# Altium footprint library LINUX.PcbLib: 113 footprints (part 7 of 8)
Each footprint in its own frame and in the unit in brackets; x right, y up, seen from the top. Pads: shape width x height; smd on the part's side, far side on the other; paste and mask are expansions set on the pad; w line width, h text height; cw(c..) or ccw(c..) is an arc to the next point about the centre after c.
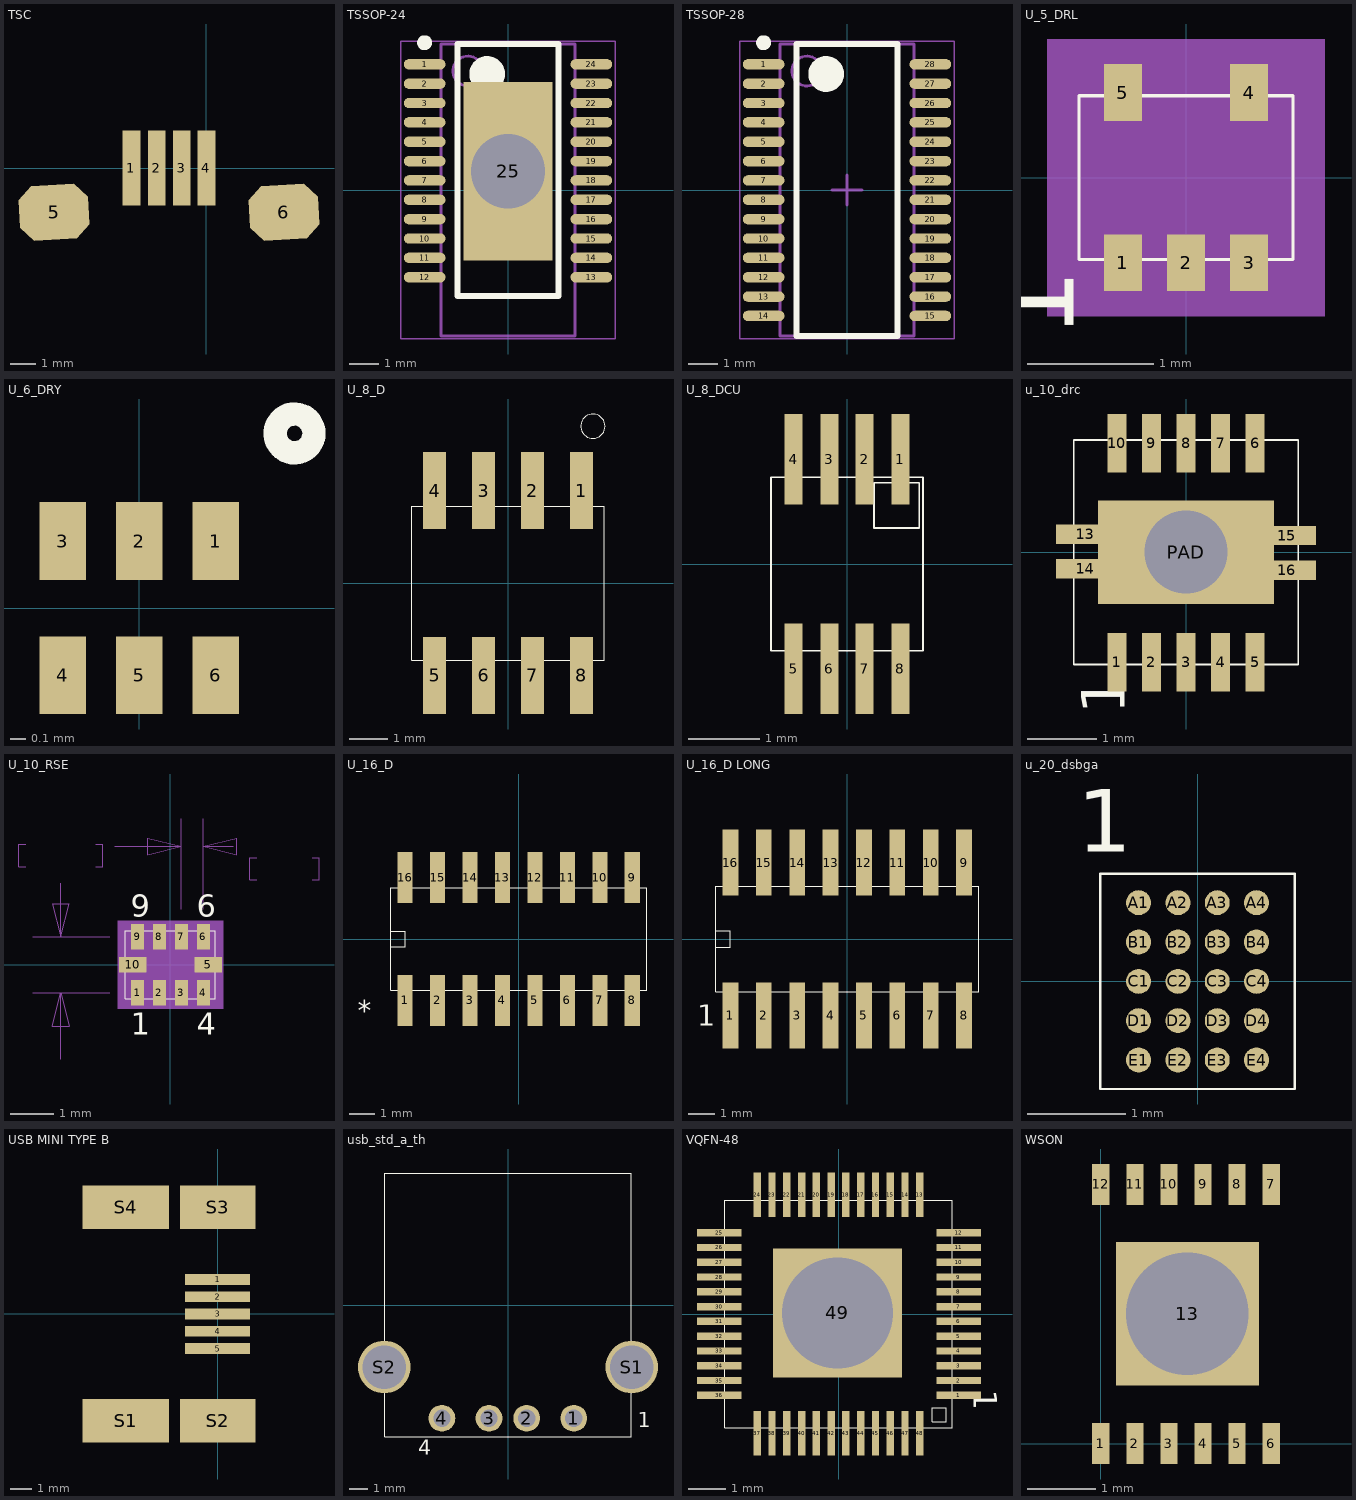
[diagram p6: the footprints below, top view; thin cyan lines are the x and y axes]

## TSC [mm] "CNFPC1X40-0P5MM"
pads (6):
  rect 0.7x3 smd mask+0.06: 1(-3,0) 2(-2,0) 3(-1,0) 4(0,0)
  oct 2.8x2.2 smd rot 3 mask+0.06: 5(-6.1,-1.762) 6(3.1,-1.762)

## TSSOP-24 [mm] "TSOP, 28-Leads, Body 9.7x4.4mm, Pitch 0.65mm, IPC High Density"
height 1.2
pads (25):
  oval 1.4x0.35 smd: 1(-2.8,4.225) 2(-2.8,3.575) 3(-2.8,2.925) 4(-2.8,2.275) 5(-2.8,1.625) 6(-2.8,0.975) 7(-2.8,0.325) 8(-2.8,-0.325) 9(-2.8,-0.975) 10(-2.8,-1.625) 11(-2.8,-2.275) 12(-2.8,-2.925) 13(2.8,-2.925) 14(2.8,-2.275) 15(2.8,-1.625) 16(2.8,-0.975) 17(2.8,-0.325) 18(2.8,0.325) 19(2.8,0.975) 20(2.8,1.625) 21(2.8,2.275) 22(2.8,2.925) 23(2.8,3.575) 24(2.8,4.225)
  rect 3x6 hole 2.5 square: 25(0,0.635)
Top Overlay:
  circle w0.6: c-0.7,3.9 r0.3
  circle w0.25: c-2.8,4.95 r0.125
  lines w0.2: -1.7,-3.556 1.7,-3.556 1.7,4.9 -1.7,4.9 -1.7,-3.556
Mechanical 13:
  circle w0.1: c-1.35,4 r0.5
  lines w0.1: -2.25,-4.9 2.25,-4.9 2.25,4.9 -2.25,4.9 -2.25,-4.9
Mechanical 15:
  lines w0.05: -3.6,-5 3.6,-5 3.6,5 -3.6,5 -3.6,-5
  lines w0.1: -0.5,0 0.5,0 ; 0,-0.5 0,0.5
3D body: height 1.2, standoff 0.05, extent -2.25,-4.9 2.25,4.9

## TSSOP-28 [mm] "TSOP, 28-Leads, Body 9.7x4.4mm, Pitch 0.65mm, IPC High Density"
height 1.2
pads (28):
  oval 1.4x0.35 smd: 1(-2.8,4.225) 2(-2.8,3.575) 3(-2.8,2.925) 4(-2.8,2.275) 5(-2.8,1.625) 6(-2.8,0.975) 7(-2.8,0.325) 8(-2.8,-0.325) 9(-2.8,-0.975) 10(-2.8,-1.625) 11(-2.8,-2.275) 12(-2.8,-2.925) 13(-2.8,-3.575) 14(-2.8,-4.225) 15(2.8,-4.225) 16(2.8,-3.575) 17(2.8,-2.925) 18(2.8,-2.275) 19(2.8,-1.625) 20(2.8,-0.975) 21(2.8,-0.325) 22(2.8,0.325) 23(2.8,0.975) 24(2.8,1.625) 25(2.8,2.275) 26(2.8,2.925) 27(2.8,3.575) 28(2.8,4.225)
Top Overlay:
  circle w0.25: c-2.8,4.95 r0.125
  circle w0.6: c-0.7,3.9 r0.3
  lines w0.2: -1.7,-4.9 -1.7,4.9 1.7,4.9 1.7,-4.9 -1.7,-4.9
Mechanical 13:
  circle w0.1: c-1.35,4 r0.5
  lines w0.1: -2.25,-4.9 -2.25,4.9 2.25,4.9 2.25,-4.9 -2.25,-4.9
Mechanical 15:
  lines w0.05: -3.6,-5 -3.6,5 3.6,5 3.6,-5 -3.6,-5
  lines w0.1: -0.5,0 0.5,0 ; 0,-0.5 0,0.5
3D body: height 1.2, standoff 0.05, extent -2.25,-4.9 2.25,4.9

## U_5_DRL [mm] "U_5_DRL"
pads (5):
  rect 0.3x0.45 smd mask+0.06: 1(-0.5,-0.675) 2(0,-0.675) 3(0.5,-0.675) 4(0.5,0.675) 5(-0.5,0.675)
Top Overlay:
  lines w0.025: -0.85,-0.65 -0.85,0.65 0.85,0.65 0.85,-0.65 -0.85,-0.65
  text "1" at -0.89,-1.28 h0.64
Mechanical 16:
  region: 1.1,1.1 1.1,-1.1 -1.1,-1.1 -1.1,1.1
  lines w0.025: -0.85,-0.65 -0.85,0.65 0.85,0.65 0.85,-0.65 -0.85,-0.65
Mechanical 20:
  text "MFG:" at 0,-19.177 h0.79
  text "SYM:" at 0,-20.447 h0.79
  text "PAD:" at 0,-21.844 h0.79
  text "BUILT BY:" at 0,-23.368 h0.79
  text "CHECKED BY:" at 0,-24.892 h0.79
Mechanical 32:
  text "1" at -0.885,-1.282 h0.64
  text "4" at 0.5,0.421 h0.64
  text "2" at 0,-0.929 h0.64
  text "3" at 0.5,-0.929 h0.64
  text "1" at -0.5,-0.929 h0.64
  text "5" at -0.5,0.421 h0.64

## U_6_DRY [mil] "U_6_DRY"
pads (6):
  rect 12x20 smd mask+3.94: 1(19.68,17.28) 2(0,17.28) 3(-19.68,17.28) 4(-19.68,-17.28) 5(0,-17.28) 6(19.68,-17.28)
Top Overlay:
  circle w6: c40,45 r5

## U_8_D [mm] "U_8_D"
pads (8):
  rect 0.6x2 smd: 1(1.905,2.4) 2(0.635,2.4) 3(-0.635,2.4) 4(-1.905,2.4) 5(-1.905,-2.4) 6(-0.635,-2.4) 7(0.635,-2.4) 8(1.905,-2.4)
Top Overlay:
  circle w0.025: c2.205,4.075 r0.316
  lines w0.025: -2.5,-2 -2.5,2 2.5,2 2.5,-2 -2.5,-2

## U_8_DCU [mil] "U_8_DCU"
pads (8):
  rect 10x50 smd mask+5.12: 1(29.5,58) 2(9.8,58) 3(-9.8,58) 4(-29.5,58) 5(-29.5,-58) 6(-9.8,-58) 7(9.8,-58) 8(29.5,-58)
Top Overlay:
  lines w1: -42,-48 -42,48 42,48 42,-48 -42,-48 ; 15,20 15,45 40,45 40,20 15,20

## u_10_drc [mm] "U_10_DRC"
pads (15):
  rect 0.28x0.85 smd mask+0.12: 1(-1,-1.595) 2(-0.5,-1.595) 3(0,-1.595) 4(0.5,-1.595) 5(1,-1.595) 6(1,1.575) 7(0.5,1.575) 8(0,1.575) 9(-0.5,1.575) 10(-1,1.575)
  rect 0.85x0.28 smd mask+0.12: 13(-1.46,0.26) 14(-1.46,-0.24) 15(1.46,0.24) 16(1.46,-0.26)
  rect 2.55x1.5 hole 1.2 square: PAD(0,0)
Top Overlay:
  lines w0.025: -1.625,0 -1.625,-1.625 ; 0,-1.625 -1.625,-1.625 ; -1.625,-1.625 -1.625,1.625 1.625,1.625 1.625,-1.625 -1.625,-1.625
  text "1" at -0.889,-2.343 h0.64
Top Paste:
  pour cut-out: -0.11,0.79 -1.16,0.79 -1.16,0.11 -0.11,0.11
  pour cut-out: 1.16,0.79 0.11,0.79 0.11,0.11 1.16,0.11
  pour cut-out: 1.16,-0.11 0.11,-0.11 0.11,-0.79 1.16,-0.79
  pour cut-out: -0.11,-0.11 -1.16,-0.11 -1.16,-0.79 -0.11,-0.79
  pour cut-out: -1.38,0.38 -1.88,0.38 -1.88,0.12 -1.38,0.12
  pour cut-out: -1.38,-0.12 -1.88,-0.12 -1.88,-0.38 -1.38,-0.38
  pour cut-out: 1.88,0.38 1.38,0.38 1.38,0.12 1.88,0.12
  pour cut-out: 1.88,-0.12 1.38,-0.12 1.38,-0.38 1.88,-0.38

## U_10_RSE [mm] "U_10_RSE"
pads (10):
  rect 0.3x0.58 smd mask+0.051: 1(-0.75,-0.635) 2(-0.25,-0.635) 3(0.25,-0.635) 4(0.75,-0.635) 6(0.75,0.635) 7(0.25,0.635) 8(-0.25,0.635) 9(-0.75,0.635)
  rect 0.63x0.35 smd mask+0.051: 5(0.86,0) 10(-0.86,0)
Top Overlay:
  lines w0.025: -1.025,-0.775 1.025,-0.775 1.025,0.775 -1.025,0.775 -1.025,-0.775
  text "1" at -0.9,-1.6 h0.51
  text "4" at 0.6,-1.6 h0.51
  text "6" at 0.6,1.1 h0.51
  text "9" at -0.9,1.1 h0.51
Mechanical 16:
  region: -1.2,-1 1.2,-1 1.2,1 -1.2,1
  lines w0.025: -3.301,2.238 -3.453,2.238 -3.453,2.746 -3.301,2.746 ; -3.135,-0.635 -1.385,-0.635 ; -3.135,0.635 -1.385,0.635 ; -2.5,-2.159 -2.5,-0.635 ; -2.5,1.857 -2.5,0.635 ; -1.7,2.238 -1.548,2.238 -1.548,2.746 -1.7,2.746 ; -1.274,2.7 0.25,2.7 ; 0.25,1.27 0.25,3.335 ; 0.75,1.27 0.75,3.335 ; 1.432,2.7 0.75,2.7 ; 1.964,1.938 1.812,1.938 1.812,2.446 1.964,2.446 ; 3.235,1.938 3.387,1.938 3.387,2.446 3.235,2.446 ; -2.5,-0.635 -2.31,-1.397 -2.69,-1.397 -2.5,-0.635 ; -2.5,0.635 -2.69,1.397 -2.31,1.397 -2.5,0.635 ; 0.25,2.7 -0.512,2.51 -0.512,2.89 0.25,2.7 ; 0.75,2.7 1.512,2.89 1.512,2.51 0.75,2.7
  lines w0.127: -1.025,-0.775 1.025,-0.775 1.025,0.775 -1.025,0.775 -1.025,-0.775
Mechanical 20:
  text ".020" at 1.952,2.954 h0.51
  text "0.5" at 2.117,1.938 h0.51
  text ".050" at -3.148,3.254 h0.51
  text "1.27" at -3.148,2.238 h0.51
Mechanical 32:
  text "6" at 0.546,0.635 h0.51
  text "7" at 0.046,0.635 h0.51
  text "8" at -0.454,0.635 h0.51
  text "1" at -0.954,-0.635 h0.51
  text "2" at -0.454,-0.635 h0.51
  text "3" at 0.046,-0.635 h0.51
  text "4" at 0.546,-0.635 h0.51
  text "9" at -0.954,0.635 h0.51
  text "5" at 0.656,0 h0.51
  text "10" at -1.268,0 h0.51
  text "1" at -0.952,-1.655 h0.64
  text "4" at 0.547,-1.681 h0.64
  text "6" at 0.572,1.062 h0.64
  text "9" at -0.952,1.037 h0.64

## U_16_D [mm] "U_16_D"
pads (16):
  rect 0.6x2 smd: 1(-4.445,-2.4) 2(-3.175,-2.4) 3(-1.905,-2.4) 4(-0.635,-2.4) 5(0.635,-2.4) 6(1.905,-2.4) 7(3.175,-2.4) 8(4.445,-2.4) 9(4.445,2.4) 10(3.175,2.4) 11(1.905,2.4) 12(0.635,2.4) 13(-0.635,2.4) 14(-1.905,2.4) 15(-3.175,2.4) 16(-4.445,2.4)
Top Overlay:
  lines w0.025: -5.004,-2.007 5.004,-2.007 5.004,2.007 -5.004,2.007 -5.004,-2.007 ; -5.004,-0.305 -4.445,-0.305 -4.445,0.305 -5.004,0.305 -5.004,-0.305
  text "*" at -6.284,-3.175 h0.79

## U_16_D LONG [mm] "U_16_D"
pads (16):
  rect 0.6x2.5 smd: 1(-4.445,-2.908) 2(-3.175,-2.908) 3(-1.905,-2.908) 4(-0.635,-2.908) 5(0.635,-2.908) 6(1.905,-2.908) 7(3.175,-2.908) 8(4.445,-2.908) 9(4.445,2.908) 10(3.175,2.908) 11(1.905,2.908) 12(0.635,2.908) 13(-0.635,2.908) 14(-1.905,2.908) 15(-3.175,2.908) 16(-4.445,2.908)
Top Overlay:
  lines w0.025: -5.004,-2.007 5.004,-2.007 5.004,2.007 -5.004,2.007 -5.004,-2.007 ; -5.004,-0.305 -4.445,-0.305 -4.445,0.305 -5.004,0.305 -5.004,-0.305
  text "1" at -5.715,-3.302 h0.79

## u_20_dsbga [mil] "U_20_DSBGA"
pads (20):
  round 10 smd mask+1.57: A1(-23.62,31.5) A2(-7.87,31.5) A3(7.87,31.5) A4(23.62,31.5) B1(-23.62,15.75) B2(-7.87,15.75) B3(7.87,15.75) B4(23.62,15.75) C1(-23.62,0) C2(-7.87,0) C3(7.87,0) C4(23.62,0) D1(-23.62,-15.75) D2(-7.87,-15.75) D3(7.87,-15.75) D4(23.62,-15.75) E1(-23.62,-31.5) E2(-7.87,-31.5) E3(7.87,-31.5) E4(23.62,-31.5)
Top Overlay:
  lines w1: -38.98,-43.11 -38.98,43.11 38.98,43.11 38.98,-43.11 -38.98,-43.11
  text "1" at -48.28,51.83 h25.2

## USB MINI TYPE B [mm] "USB MINI TYPE B"
pads (9):
  rect 3x0.5 smd mask+0.06: 1(0,1.6) 2(0,0.8) 3(0,0) 4(0,-0.8) 5(0,-1.6)
  rect 4x2 smd mask+0.06: S1(-4.25,-4.925) S4(-4.25,4.925)
  rect 3.5x2 smd mask+0.06: S2(0,-4.925) S3(0,4.925)

## usb_std_a_th [mil] "USB_STD_A_TH"
pads (6):
  round 56 hole 36: 1(137.5,-236.5) 2(39.08,-236.5) 3(-39.66,-236.5) 4(-138.09,-236.5)
  round 110 hole 91: S1(258.5,-129.5) S2(-258.5,-129.5)
Top Overlay:
  lines w1: -258,-275.5 258,-275.5 258,275.5 -258,275.5 -258,-275.5
  text "1" at 270.78,-255.34 h31.1
  text "4" at -187.64,-312.71 h31.1

## VQFN-48 [mm] "U_48_RSL"
pads (49):
  rect 1.2x0.2 smd mask+0.051: 1(3.255,-2.2) 2(3.255,-1.8) 3(3.255,-1.4) 4(3.255,-1) 5(3.255,-0.6) 6(3.255,-0.2) 7(3.255,0.2) 8(3.255,0.6) 9(3.255,1) 10(3.255,1.4) 11(3.255,1.8) 12(3.255,2.2) 25(-3.229,2.2) 26(-3.229,1.8) 27(-3.229,1.4) 28(-3.229,1) 29(-3.229,0.6) 30(-3.229,0.2) 31(-3.229,-0.2) 32(-3.229,-0.6) 33(-3.229,-1) 34(-3.229,-1.4) 35(-3.229,-1.8) 36(-3.229,-2.2)
  rect 0.2x1.2 smd mask+0.051: 13(2.2,3.229) 14(1.8,3.229) 15(1.4,3.229) 16(1,3.229) 17(0.6,3.229) 18(0.2,3.229) 19(-0.2,3.229) 20(-0.6,3.229) 21(-1,3.229) 22(-1.4,3.229) 23(-1.8,3.229) 24(-2.2,3.229) 37(-2.2,-3.229) 38(-1.8,-3.229) 39(-1.4,-3.229) 40(-1,-3.229) 41(-0.6,-3.229) 42(-0.2,-3.229) 43(0.2,-3.229) 44(0.6,-3.229) 45(1,-3.229) 46(1.4,-3.229) 47(1.8,-3.229) 48(2.2,-3.229)
  rect 3.5x3.5 hole 3 square: 49(-0.029,0.029)
Top Overlay:
  lines w0.025: -3.075,-3.075 3.075,-3.075 3.075,3.075 -3.075,3.075 -3.075,-3.075 ; 2.54,-2.921 2.921,-2.921 2.921,-2.54 2.54,-2.54 2.54,-2.921
  text "1" at 3.653,-2.044 h0.64
Top Paste:
  lines w0.025: -1.8,-2.25 -0.65,-2.25 -0.65,-1.1 -1.8,-1.1 -1.8,-2.25 ; -1.8,-0.8 -0.65,-0.8 -0.65,0.35 -1.8,0.35 -1.8,-0.8 ; -1.8,0.65 -0.65,0.65 -0.65,1.8 -1.8,1.8 -1.8,0.65 ; -0.35,-2.25 0.8,-2.25 0.8,-1.1 -0.35,-1.1 -0.35,-2.25 ; -0.35,-0.8 0.8,-0.8 0.8,0.35 -0.35,0.35 -0.35,-0.8 ; -0.35,0.65 0.8,0.65 0.8,1.8 -0.35,1.8 -0.35,0.65 ; 1.1,-2.25 2.25,-2.25 2.25,-1.1 1.1,-1.1 1.1,-2.25 ; 1.1,-0.8 2.25,-0.8 2.25,0.35 1.1,0.35 1.1,-0.8 ; 1.1,0.65 2.25,0.65 2.25,1.8 1.1,1.8 1.1,0.65

## WSON [mm] "U_48_RSL"
pads (13):
  rect 0.25x0.6 smd mask+0.051: 1(0,0) 2(0.5,0) 3(1,0) 4(1.5,0) 5(2,0) 6(2.5,0) 7(2.5,3.8) 8(2,3.8) 9(1.5,3.8) 10(1,3.8) 11(0.5,3.8) 12(0,3.8)
  rect 2.1x2.1 hole 1.8 square: 13(1.27,1.905)